# Altium schematic symbol library 220K.SchLib: 1 symbol
Pins are listed as number, name and electrical type; pins without a type are passive.

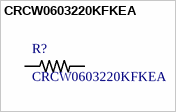
[diagram p0: symbol CRCW0603220KFKEA]

## CRCW0603220KFKEA
designator R?
/ Res Thick Film 0603 220K Ohm 1% 0.1W_1/10W_ Â±100ppm/C Molded SMD Automotive Paper T/R /; MF: Vishay Dale; Package: 0603 Vishay; Price: None; SnapEDA_Link: https://www.snapeda.com/parts/CRCW0603220KFKEA/Vishay%20Dale/view-part/?ref=snap; Availability: Unavailable; MP: CRCW0603220KFKEA; Value: *
footprint *0603
pins: 1, 2